# EAGLE library part ATTINY10 (library kalshagar)
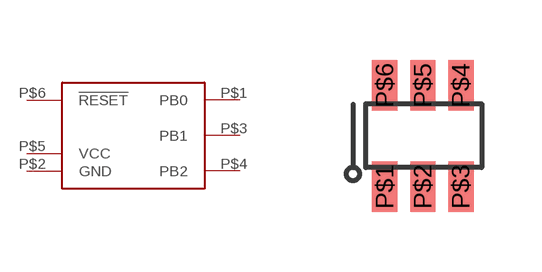
[diagram p8: symbol with the pads of SOT23; footprint SOT23]

Designator prefix -

## ATTINY10  [SOT23]
P$1  PB0
P$2  GND
P$3  PB1
P$4  PB2
P$5  VCC
P$6  !RESET

## Footprint SOT23 (pad centres in mm)
smd 0.635 x 1.27: P$1 0.476,-0.476; P$2 1.429,-0.476; P$3 2.381,-0.476; P$4 2.381,2.064; P$5 1.429,2.064; P$6 0.476,2.064